# EAGLE library part INA2128 (library DAC714p)
Dual Instrumentation Amplifier Low Power
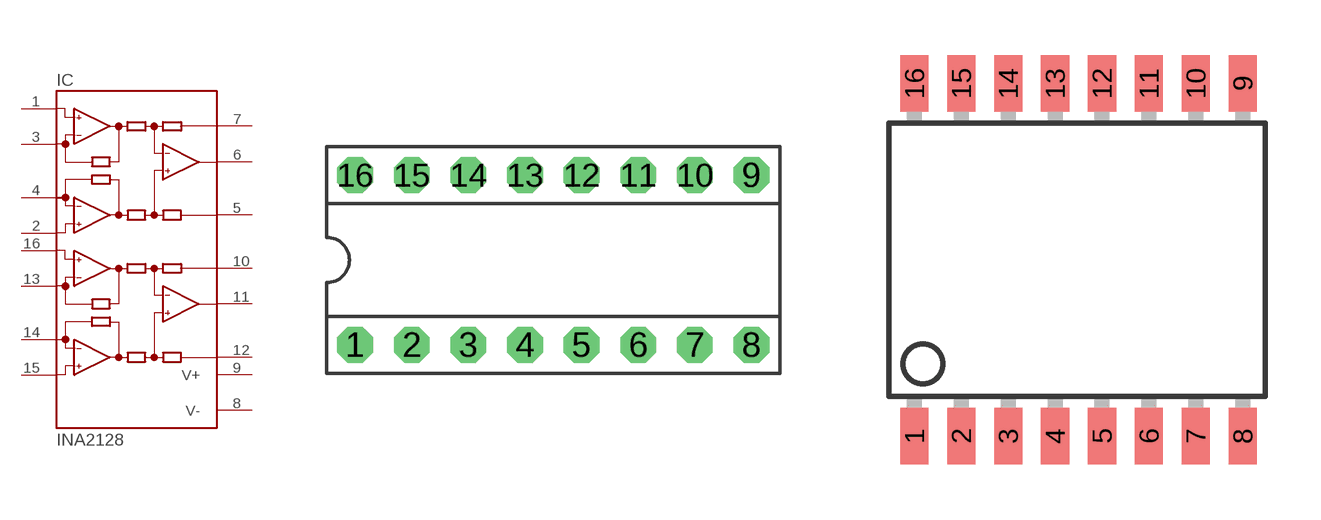
[diagram p0: symbol with the pads of DIL16; footprints DIL16, SO16-1]

Designator prefix IC

## INA2128P (OC_FARNELL: unknown; OC_NEWARK: unknown)  [DIL16]
1  INA-  in
2  INA+  in
3  RGA  pas
4  RGA  pas
5  REFA  in
6  VOA  out
7  SENSEA  in
8  V-  pwr
9  V+  pwr
10  SENSEB  in
11  VOB  out
12  REFB  in
13  RGB  pas
14  RGB  pas
15  INB+  in
16  INB-  in

## INA2128U (MF: TEXAS INSTRUMENTS; MPN: INA2128U; OC_FARNELL: 1212421; OC_NEWARK: 28C7388)  [SO16-1]
Pads as for DIL16

## Footprint DIL16 (pad centres in mm)
Dual In Line
drill 0.813 pad 1.6 octagon: 1 -8.89,-3.81; 2 -6.35,-3.81; 3 -3.81,-3.81; 4 -1.27,-3.81; 5 1.27,-3.81; 6 3.81,-3.81; 7 6.35,-3.81; 8 8.89,-3.81; 9 8.89,3.81; 10 6.35,3.81; 11 3.81,3.81; 12 1.27,3.81; 13 -1.27,3.81; 14 -3.81,3.81; 15 -6.35,3.81; 16 -8.89,3.81

## Footprint SO16-1 (pad centres in mm)
Small Outline Package
smd 0.762 x 1.524: 1 -4.445,-4.775; 2 -3.175,-4.775; 3 -1.905,-4.775; 4 -0.635,-4.775; 5 0.635,-4.775; 6 1.905,-4.775; 7 3.175,-4.775; 8 4.445,-4.775; 9 4.445,4.775; 10 3.175,4.775; 11 1.905,4.775; 12 0.635,4.775; 13 -0.635,4.775; 14 -1.905,4.775; 15 -3.175,4.775; 16 -4.445,4.775